# EAGLE library part ATSAMD51 (library all-chips)
ATSAMD51 MicroChip Micro-controller targeted for general purpose applications using the 32-bit ARM® Cortex®-M4 processor with Floating Point Unit (FPU), running up to 120 MHz ,up to 1 MB Dual Panel Flash with ECC, and up to 256 KB of SRAM with ECC. https://www.microchip.com/en-us/product/ATSAMD51J20A
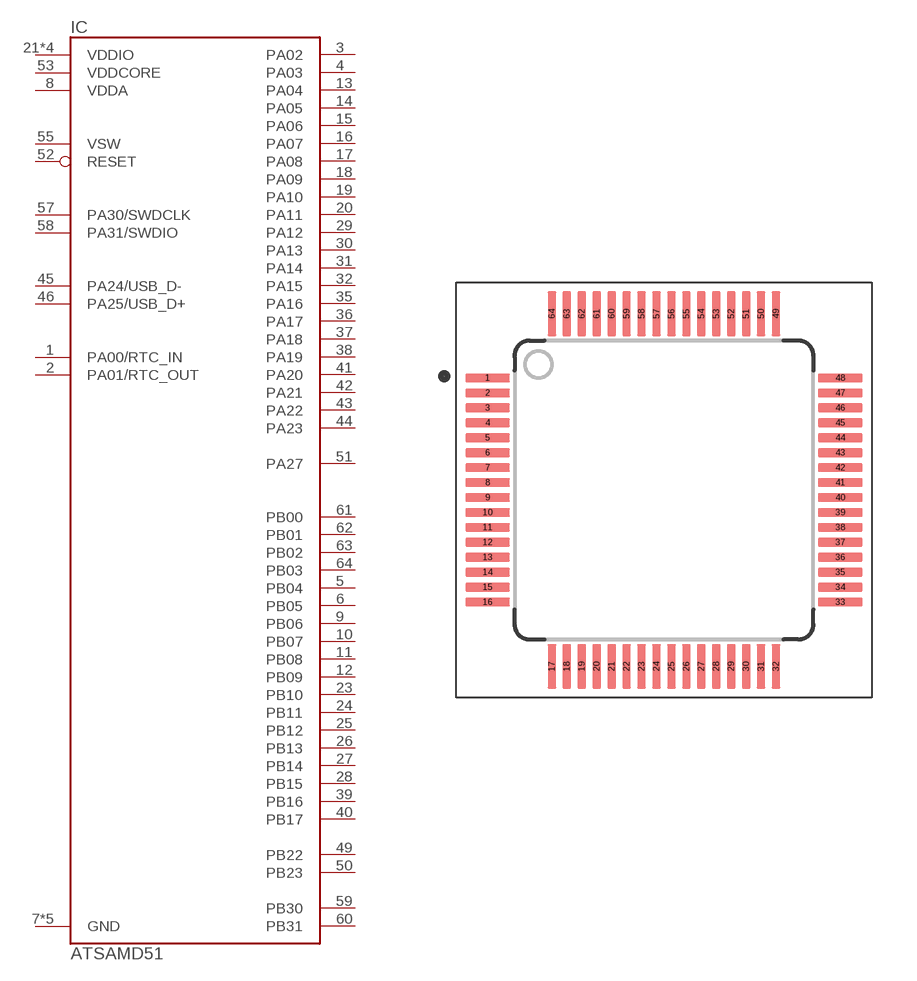
[diagram p22: symbol with the pads of LQFP64_10.00X10.00MM; footprint LQFP64_10.00X10.00MM]

Designator prefix IC

## ATSAMD51J20  [LQFP64_10.00X10.00MM]
1  PA00/RTC_IN
2  PA01/RTC_OUT
3  PA02
4  PA03
5  PB04
6  PB05
7  GND  pwr
8  VDDA  pwr
9  PB06
10  PB07
11  PB08
12  PB09
13  PA04
14  PA05
15  PA06
16  PA07
17  PA08
18  PA09
19  PA10
20  PA11
21  VDDIO  pwr
22  GND  pwr
23  PB10
24  PB11
25  PB12
26  PB13
27  PB14
28  PB15
29  PA12
30  PA13
31  PA14
32  PA15
33  GND  pwr
34  VDDIO  pwr
35  PA16
36  PA17
37  PA18
38  PA19
39  PB16
40  PB17
41  PA20
42  PA21
43  PA22
44  PA23
45  PA24/USB_D-
46  PA25/USB_D+
47  GND  pwr
48  VDDIO  pwr
49  PB22
50  PB23
51  PA27
52  RESET
53  VDDCORE  pwr
54  GND  pwr
55  VSW  in
56  VDDIO  pwr
57  PA30/SWDCLK
58  PA31/SWDIO
59  PB30
60  PB31
61  PB00
62  PB01
63  PB02
64  PB03

## Footprint LQFP64_10.00X10.00MM (pad centres in mm)
https://www.nxp.com/docs/en/package-information/SOT314-2.pdf
smd 1.5 x 0.3: 1 -5.9,3.75; 2 -5.9,3.25; 3 -5.9,2.75; 4 -5.9,2.25; 5 -5.9,1.75; 6 -5.9,1.25; 7 -5.9,0.75; 8 -5.9,0.25; 9 -5.9,-0.25; 10 -5.9,-0.75; 11 -5.9,-1.25; 12 -5.9,-1.75; 13 -5.9,-2.25; 14 -5.9,-2.75; 15 -5.9,-3.25; 16 -5.9,-3.75; 33 5.9,-3.75; 34 5.9,-3.25; 35 5.9,-2.75; 36 5.9,-2.25; 37 5.9,-1.75; 38 5.9,-1.25; 39 5.9,-0.75; 40 5.9,-0.25; 41 5.9,0.25; 42 5.9,0.75; 43 5.9,1.25; 44 5.9,1.75; 45 5.9,2.25; 46 5.9,2.75; 47 5.9,3.25; 48 5.9,3.75
smd 0.3 x 1.5: 17 -3.75,-5.9; 18 -3.25,-5.9; 19 -2.75,-5.9; 20 -2.25,-5.9; 21 -1.75,-5.9; 22 -1.25,-5.9; 23 -0.75,-5.9; 24 -0.25,-5.9; 25 0.25,-5.9; 26 0.75,-5.9; 27 1.25,-5.9; 28 1.75,-5.9; 29 2.25,-5.9; 30 2.75,-5.9; 31 3.25,-5.9; 32 3.75,-5.9; 49 3.75,5.9; 50 3.25,5.9; 51 2.75,5.9; 52 2.25,5.9; 53 1.75,5.9; 54 1.25,5.9; 55 0.75,5.9; 56 0.25,5.9; 57 -0.25,5.9; 58 -0.75,5.9; 59 -1.25,5.9; 60 -1.75,5.9; 61 -2.25,5.9; 62 -2.75,5.9; 63 -3.25,5.9; 64 -3.75,5.9